# EAGLE library part TLV61070A (library LinnesLab-Power)
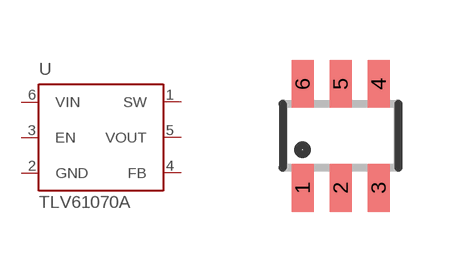
[diagram p13: symbol with the pads of SOT23-6; footprint SOT23-6]

Designator prefix U

## TLV61070A  [SOT23-6]
1  SW
2  GND
3  EN
4  FB
5  VOUT
6  VIN

## Footprint SOT23-6 (pad centres in mm)
Small Outline Transistor - 6 Pin
smd 0.55 x 1.2: 1 -0.95,-1.3; 2 0,-1.3; 3 0.95,-1.3; 4 0.95,1.3; 5 0,1.3; 6 -0.95,1.3